# Altium footprint library GFZJ 整版.PcbLib: 43 footprints (part 3 of 3)
Each footprint in its own frame and in the unit in brackets; x right, y up, seen from the top. Pads: shape width x height; smd on the part's side, far side on the other; paste and mask are expansions set on the pad; w line width, h text height; cw(c..) or ccw(c..) is an arc to the next point about the centre after c.
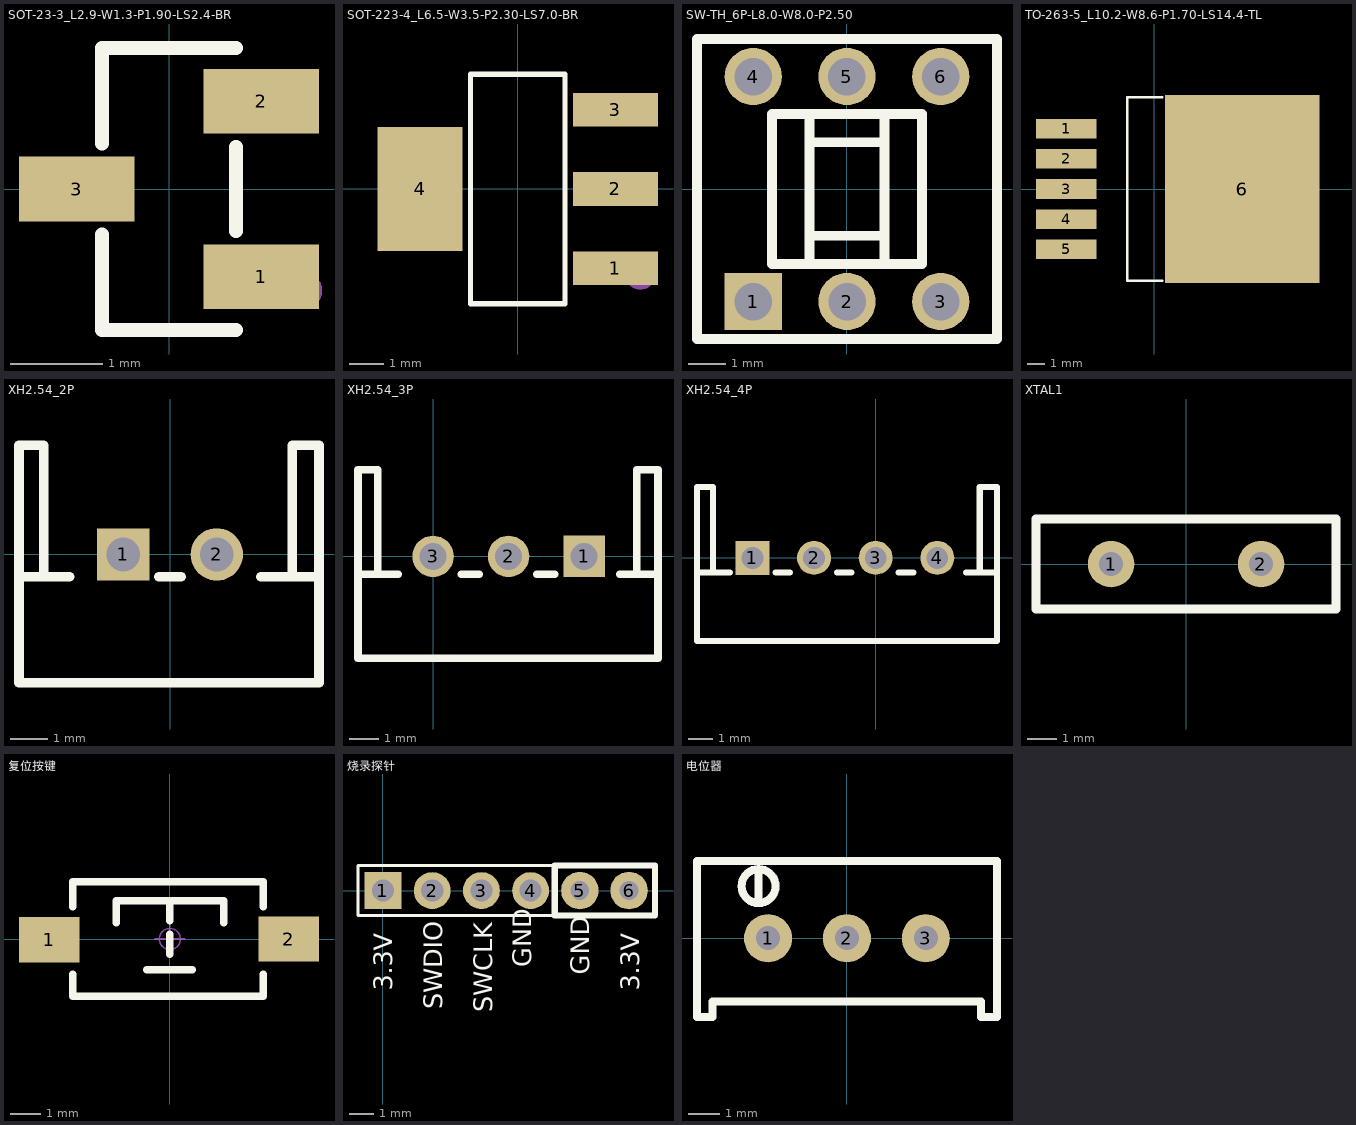
[diagram p2: the footprints below, top view; thin cyan lines are the x and y axes]

## SOT-23-3_L2.9-W1.3-P1.90-LS2.4-BR [mm]
height 12.93
pads (3):
  rect 1.25x0.7 smd: 1(1,-0.95) 2(1,0.95) 3(-1,0)
Top Overlay:
  lines w0.152: -0.726,-0.495 -0.726,-1.526 0.726,-1.526 ; -0.726,0.495 -0.726,1.526 0.726,1.526 ; 0.726,-0.455 0.726,0.455
Mechanical 15:
  circle w0.2: c1.46,-1.1 r0.1

## SOT-223-4_L6.5-W3.5-P2.30-LS7.0-BR [mm] "AMS1117-3V3"
height 12.93
pads (4):
  rect 2.47x0.98 smd: 1(2.835,-2.3) 2(2.835,0) 3(2.835,2.3)
  rect 2.47x3.6 smd: 4(-2.835,0)
Top Overlay:
  lines w0.152: -1.371,-3.326 1.371,-3.326 1.371,3.326 -1.371,3.326 -1.371,-3.326
Mechanical 15:
  circle w0.5: c3.556,-2.413 r0.25

## SW-TH_6P-L8.0-W8.0-P2.50 [mm] "8*8自锁/无锁按钮开关 自锁 按下2-3 4-5松开1-3 4-6"
height 12.93
pads (6):
  rect 1.524x1.524 hole 1: 1(-2.5,-3)
  round 1.524 hole 1: 2(0,-3) 3(2.5,-3) 4(-2.5,3) 5(0,3) 6(2.5,3)
Top Overlay:
  lines w0.254: -1,-2 -1,2 ; -1,-1.25 1,-1.25 ; -1,1.25 1,1.25 ; 1,-2 1,2 ; -4,-4 -4,4 4,4 4,-4 -4,-4 ; -2,-2 -2,2 2,2 2,-2 -2,-2

## TO-263-5_L10.2-W8.6-P1.70-LS14.4-TL [mm] "LM2576S-5V       开关稳压器"
height 12.93
pads (6):
  rect 3.4x1.1 smd: 1(-4.953,3.4) 2(-4.953,1.7) 3(-4.953,0) 4(-4.953,-1.7) 5(-4.953,-3.4)
  rect 8.705x10.587 smd: 6(4.953,0)
Top Overlay:
  lines w0.152: 0.448,-5.166 -1.516,-5.166 -1.516,5.166 0.448,5.166
Mechanical 15:
  circle w0.42: c-6.096,3.429 r0.21

## XH2.54_2P [mm] "XH2.54 弯针"
height 12.93
pads (2):
  rect 1.4x1.4 hole 0.9: 1(-1.25,0)
  round 1.4 hole 0.9: 2(1.25,0)
Top Overlay:
  lines w0.254: -4.032,-0.6 -2.682,-0.6 ; -3.372,-0.6 -3.372,2.921 -4.032,2.921 -4.032,-3.429 3.978,-3.429 3.978,2.921 3.268,2.921 3.268,-0.6 ; -0.3,-0.6 0.3,-0.6 ; 2.428,-0.6 3.978,-0.6

## XH2.54_3P [mm] "XH2.54"
height 12.93
pads (3):
  rect 1.4x1.4 hole 0.9: 1(5.08,0)
  round 1.4 hole 0.9: 2(2.54,0) 3(0,0)
Top Overlay:
  lines w0.254: -2.528,-0.6 -1.178,-0.6 ; -1.868,-0.6 -1.868,2.921 -2.528,2.921 -2.528,-3.429 7.568,-3.429 7.568,2.921 6.858,2.921 6.858,-0.6 ; 0.95,-0.6 1.55,-0.6 ; 3.49,-0.6 4.09,-0.6 ; 6.284,-0.6 6.884,-0.6 ; 6.792,-0.6 7.392,-0.6

## XH2.54_4P [mm] "XH2.54"
height 12.93
pads (4):
  rect 1.4x1.4 hole 0.9: 1(-5.08,0)
  round 1.4 hole 0.9: 2(-2.54,0) 3(0,0) 4(2.54,0)
Top Overlay:
  lines w0.254: -7.366,-0.6 -6.016,-0.6 ; -6.706,-0.6 -6.706,2.921 -7.366,2.921 -7.366,-3.429 5.002,-3.429 5.002,2.921 4.292,2.921 4.292,-0.6 ; -4.13,-0.6 -3.53,-0.6 ; -1.59,-0.6 -0.99,-0.6 ; 0.95,-0.6 1.55,-0.6 ; 3.718,-0.6 4.318,-0.6 ; 4.226,-0.6 4.826,-0.6

## XTAL1 [mil]
height 509.06
pads (2):
  round 62 hole 32: 1(-100,0) 2(100,0)
Top Overlay:
  lines w12: -200,-60 200,-60 200,60 -200,60 -200,-60

## 复位按键 [mm]
height 12.93
pads (2):
  rect 2x1.5 smd: 1(-3.996,-0.02) 2(3.937,0)
Top Overlay:
  lines w0.254: -3.212,-1.168 -3.212,-1.9 3.088,-1.9 3.088,-1.168 ; -3.212,1.067 -3.212,1.9 3.088,1.9 3.088,1.067 ; -1.778,0.533 -1.778,1.27 1.778,1.27 1.778,0.533 ; -0.762,-1.016 0.737,-1.016 ; 0,-0.508 0,0.152 ; 0,0.61 0,1.27
Mechanical 15:
  circle w0.05: c0,0 r0.35
  lines w0.05: -0.5,0 0.5,0 ; 0,-0.5 0,0.5
3D body "TSW SMD-3x6x2.5.STEP": height 2.59, standoff -0.03, extent -4,-1.877 4,1.623

## 烧录探针 [mm] "Connector; Header; 10x2 Position"
height 12.93
pads (6):
  rect 1.5x1.5 hole 0.9: 1(0,0)
  round 1.5 hole 0.9: 2(2,0) 3(4,0) 4(6,0)
  round 1.524 hole 0.762: 5(8,0) 6(10,0)
Top Overlay:
  lines w0.127: -1.016,-1.016 11.049,-1.016 11.049,1.016 -1.016,1.016 -1.016,-1.016
  lines w0.254: 11.049,-1.016 11.049,1.016 ; 11.049,-1.016 11.049,-1.016 ; 11.049,-1.016 6.985,-1.016 6.985,1.016 11.049,1.016 ; 11.049,1.016 11.049,1.016
  text "3.3V" at 10.414,-4.064 h0.76
  text "GND" at 8.382,-3.429 h0.76
  text "3.3V" at 0.381,-4.064 h0.76
  text "SWDIO" at 2.413,-4.826 h0.76
  text "SWCLK" at 4.445,-4.953 h0.76
  text "GND" at 6.025,-3.124 h0.76

## 电位器 [mil]
height 509.06
pads (3):
  round 60 hole 30: 1(-98.42,0) 2(0,0) 3(98.42,0)
Top Overlay:
  lines w10: -110.39,50 -110.39,65 ; -110.4,86.2 ccw(c-110.19,64.99) -109.99,86.2 ; 187.01,96.46 -187.01,96.46 -187.01,-96.46 -187.01,-98.42 -167.52,-98.42 -167.52,-78.74 167.52,-78.74 167.52,-98.42 187.22,-98.42 187.22,-96.46 187.22,96.46 ; -110.39,65 -110.39,80 -110.39,65